# EAGLE library part CONN_06X2 (library Lagopus_A_2)
Multi connection point. Often used as Generic Header-pin footprint for 0.1 inch spaced/style header connections On any of the 0.1 inch spaced packages, you can populate with these: Break Away Headers - Straight <https://www.sparkfun.com/products/116> (PRT-00116) Break Away Male Headers - Right Angle <https://www.sparkfun.com/products/553> (PRT-00553) Female Headers <https://www.sparkfun.com/products/115> (PRT-00115) Break Away Headers - Machine Pin <https://www.sparkfun.com/products/117> (PRT-00117) Break Away Female Headers - Swiss Machine Pin <https://www.sparkfun.com/products/743> (PRT-00743)
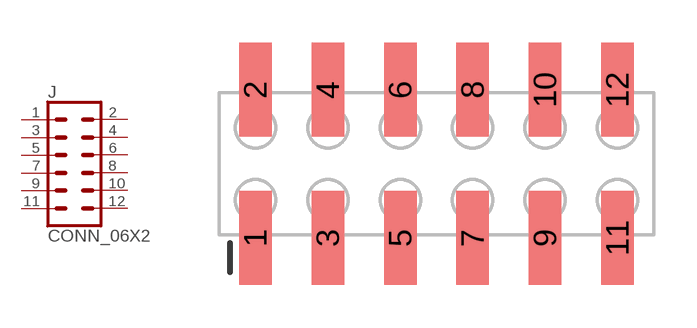
[diagram p3: symbol with the pads of 2X6_SMD; footprint 2X6_SMD]

Designator prefix J

## CONN_06X2SMD_FEMALE (PROD_ID: CONN-12423; VALUE: 2X6 FEMALE)  [2X6_SMD]
1  1  pas
2  2  pas
3  3  pas
4  4  pas
5  5  pas
6  6  pas
7  7  pas
8  8  pas
9  9  pas
10  10  pas
11  11  pas
12  12  pas

## Footprint 2X6_SMD (pad centres in mm)
Surface Mount - 2x6 Specifications: Pin count:12 Pin pitch:0.1" Example device(s): CONN_06x2
smd 1.143 x 3.302: 1 -6.35,-2.603; 2 -6.35,2.603; 3 -3.81,-2.603; 4 -3.81,2.603; 5 -1.27,-2.603; 6 -1.27,2.603; 7 1.27,-2.603; 8 1.27,2.603; 9 3.81,-2.603; 10 3.81,2.603; 11 6.35,-2.603; 12 6.35,2.603